# Altium integrated library 2200pF.IntLib: 1 symbol
Pins are listed as number, name and electrical type; pins without a type are passive.

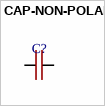
[diagram p0: symbol CAP-NON-POLAR]

## CAP-NON-POLAR
designator C?
footprint CAP-V5
pins: 1, 2